# EAGLE library part 1X11 (library Pinhead)
Ph11
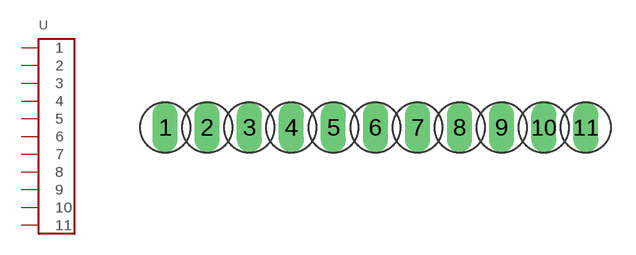
[diagram p5: symbol with the pads of 1X11; footprint 1X11]

Designator prefix -

## 1X11  [1X11]
1  1
2  2
3  3
4  4
5  5
6  6
7  7
8  8
9  9
10  10
11  11

## Footprint 1X11 (pad centres in mm)
Ph11
drill 1 pad 1.5 long: 1 -12.7,0; 2 -10.16,0; 3 -7.62,0; 4 -5.08,0; 5 -2.54,0; 6 0,0; 7 2.54,0; 8 5.08,0; 9 7.62,0; 10 10.16,0; 11 12.7,0